# Altium footprint library transist_footp.PcbLib: 40 footprints (part 3 of 3)
Each footprint in its own frame and in the unit in brackets; x right, y up, seen from the top. Pads: shape width x height; smd on the part's side, far side on the other; paste and mask are expansions set on the pad; w line width, h text height; cw(c..) or ccw(c..) is an arc to the next point about the centre after c.
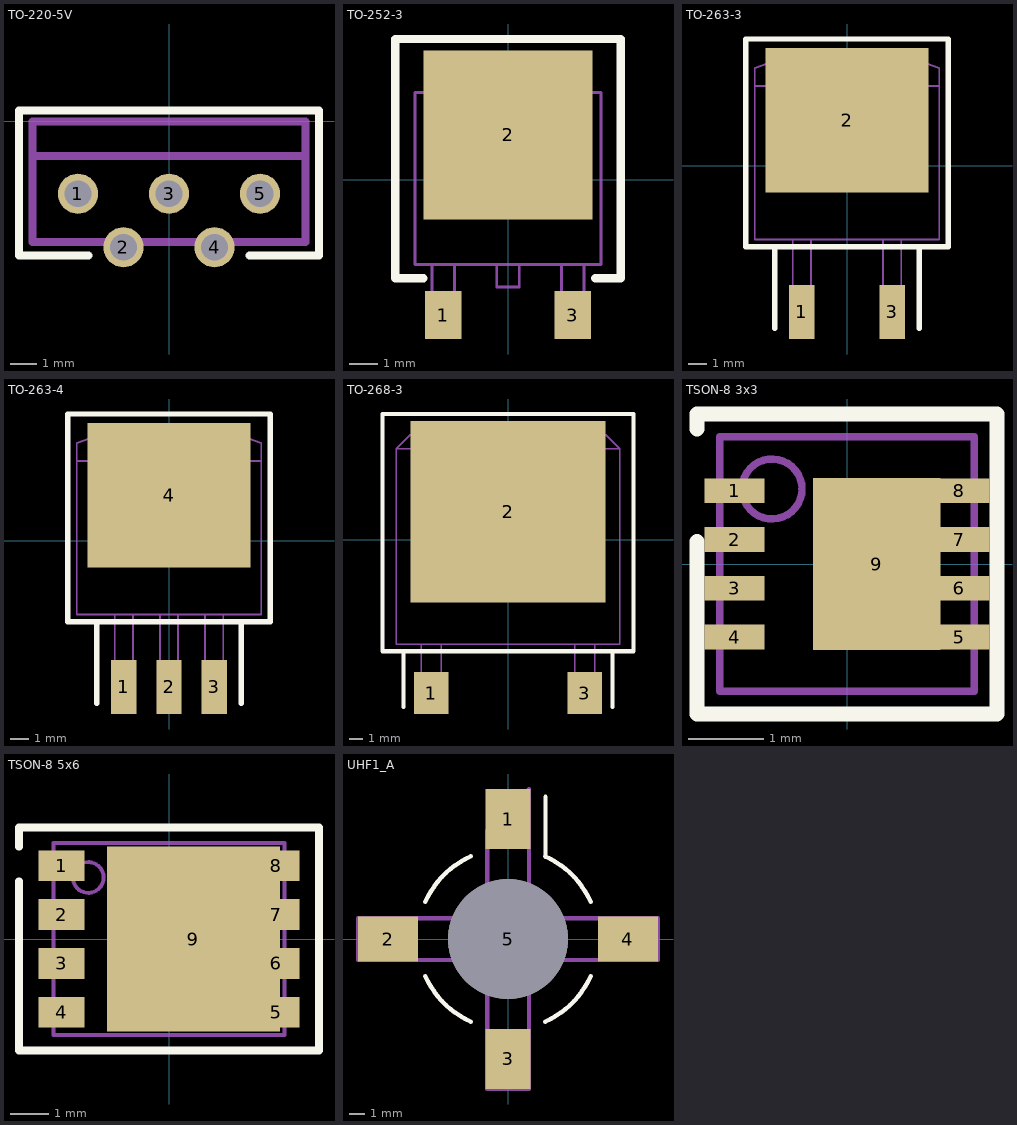
[diagram p2: the footprints below, top view; thin cyan lines are the x and y axes]

## TO-220-5V [mm]
pads (5):
  round 1.5 hole 1: 1(-3.4,-2.7) 2(-1.7,-4.7) 3(0,-2.7) 4(1.7,-4.7) 5(3.4,-2.7)
Top Overlay:
  lines w0.3: -3,-5 -5.6,-5 -5.6,0.4 5.6,0.4 5.6,-5 3,-5
Mechanical 1:
  lines w0.3: -5.1,-1.3 5.1,-1.3 ; -5.1,-4.5 5.1,-4.5 5.1,0 -5.1,0 -5.1,-4.5

## TO-252-3 [mm]
height 2.4
pads (3):
  rect 1.3x1.7 smd: 1(-2.3,-4.8) 3(2.3,-4.8)
  rect 6x6 smd paste-3: 2(0,1.6)
Top Overlay:
  lines w0.3: -3,-3.5 -4,-3.5 -4,5 4,5 4,-3.5 3.1,-3.5
Top Paste:
  rectangle: -2.5,-1 -0.4,1.2
  rectangle: 0.4,-1 2.5,1.2
  rectangle: 0.4,2 2.5,4.2
  rectangle: -2.5,2 -0.4,4.2
Mechanical 1:
  lines w0.1: -2.7,-3 -2.7,-5.4 -1.9,-5.4 -1.9,-3 ; -2.7,3.1 -2.7,4.3 -2.1,4.3 -2.1,4 2.1,4 2.1,4.3 2.7,4.3 2.7,3.1 ; -0.4,-3 -0.4,-3.8 0.4,-3.8 0.4,-3 ; 1.9,-3 1.9,-5.4 2.7,-5.4 2.7,-3 ; -3.3,-3 -3.3,3.1 3.3,3.1 3.3,-3 -3.3,-3
3D body: height 0.6, standoff 0, extent -2.7,2.9 2.7,4.3
3D body: height 2.4, standoff 0, extent -3.3,-3 3.3,3.1
3D body: height 1, standoff 0.6, extent -0.45,-3.8 0.45,-2.8
3D body: height 0.96, standoff 0.04, extent -2.7,-5.4 -1.9,-2.9
3D body: height 0.96, standoff 0.04, extent 1.9,-5.4 2.7,-2.9

## TO-263-3 [mm]
height 4.6
pads (3):
  rect 1.4x3 smd: 1(-2.5,-8.1) 3(2.5,-8.1)
  rect 9x8 smd paste-10: 2(0,2.5)
Top Overlay:
  lines w0.3: -4,-9 -4,-4.5 ; 4,-9 4,-4.5 ; -5.6,-4.5 5.6,-4.5 5.6,7 -5.6,7 -5.6,-4.5
Top Paste:
  rectangle: -4,-0.5 -0.5,2
  rectangle: 0.5,-0.5 4,2
  rectangle: 0.5,3.5 4,6
  rectangle: -4,3.5 -0.5,6
Mechanical 1:
  lines w0.1: -5.1,4.4 5.1,4.4 ; -3,-4.1 -3,-9.2 -2,-9.2 -2,-4.1 ; 2,-4.1 2,-9.2 3,-9.2 3,-4.1 ; -5.1,-4.1 -5.1,5.4 -3.4,6 3.4,6 5.1,5.4 5.1,-4.1 -5.1,-4.1
3D body: height 0.6, standoff 0, extent -5.1,4.4 5.1,6
3D body: height 4.5, standoff 0.2, extent -5.1,-4.2 5.1,4.4
3D body: height 2.01, standoff -0.01, extent 1.9,-9.2 3.1,-3.7
3D body: height 2.01, standoff -0.01, extent -3.1,-9.2 -1.9,-3.7

## TO-263-4 [mm]
height 4.6
pads (4):
  rect 1.4x3 smd: 1(-2.5,-8.1) 2(0,-8.1) 3(2.5,-8.1)
  rect 9x8 smd paste-10: 4(0,2.5)
Top Overlay:
  lines w0.3: -4,-9 -4,-4.5 ; 4,-9 4,-4.5 ; -5.6,-4.5 -5.6,7 5.6,7 5.6,-4.5 -5.6,-4.5
Top Paste:
  rectangle: -4,3.5 -0.5,6
  rectangle: 0.5,3.5 4,6
  rectangle: 0.5,-0.5 4,2
  rectangle: -4,-0.5 -0.5,2
Mechanical 1:
  lines w0.1: -5.1,4.4 5.1,4.4 ; -3,-4.1 -3,-9.2 -2,-9.2 -2,-4.1 ; -0.5,-4.1 -0.5,-9.2 0.5,-9.2 0.5,-4.1 ; 2,-4.1 2,-9.2 3,-9.2 3,-4.1 ; -5.1,-4.1 5.1,-4.1 5.1,5.4 3.4,6 -3.4,6 -5.1,5.4 -5.1,-4.1
3D body: height 4.5, standoff 0.2, extent -5.1,-4.2 5.1,4.4
3D body: height 0.6, standoff 0, extent -5.1,4.4 5.1,6
3D body: height 2.01, standoff -0.01, extent 1.9,-9.2 3.1,-3.7
3D body: height 2.01, standoff -0.01, extent -0.6,-9.2 0.6,-3.7
3D body: height 2.01, standoff -0.01, extent -3.1,-9.2 -1.9,-3.7

## TO-268-3 [mm]
height 5
pads (3):
  rect 2.5x3 smd: 1(-5.5,-11) 3(5.5,-11)
  rect 14x13 smd paste-10: 2(0,2)
Top Overlay:
  lines w0.3: -7.5,-12 -7.5,-8 ; 7.5,-12 7.5,-8 ; -9,-8 -9,9 9,9 9,-8 -9,-8
Top Paste:
  rectangle: 3,-3.5 6,1
  rectangle: 3,2.5 6.5,4.5
  rectangle: -6.5,2.5 -3,4.5
  rectangle: -1.5,1.5 1.5,7.5
  rectangle: -6,-3.5 -3,1
  rectangle: -1.5,-3.5 1.5,0
Mechanical 1:
  lines w0.1: -6.2,-7.5 -6.2,-11.5 -4.8,-11.5 -4.8,-7.5 ; 4.8,-7.5 4.8,-11.5 6.2,-11.5 6.2,-7.5 ; -8,6.5 -8,-7.5 8,-7.5 8,6.5 ; -8,6.5 8,6.5 ; -8,6.5 -7,7.5 7,7.5 8,6.5
3D body: height 5, standoff 0.2, extent -8,-7.5 8,6.5
3D body: height 0.6, standoff 0, extent -8,4.5 8,7.5
3D body: height 2.46, standoff -0.06, extent -6.2,-12 -4.8,-6.5
3D body: height 2.46, standoff -0.06, extent 4.8,-12 6.2,-6.5

## TSON-8 3x3 [mm] "3x3"
height 1
pads (9):
  rect 0.8x0.33 smd: 1(-1.5,0.975) 2(-1.5,0.325) 3(-1.5,-0.325) 4(-1.5,-0.975) 5(1.5,-0.975) 6(1.5,-0.325) 7(1.5,0.325) 8(1.5,0.975)
  rect 1.7x2.3 smd: 9(0.4,0)
Top Overlay:
  lines w0.2: -2,0.3 -2,-2 2,-2 2,2 -2,2 -2,1.8
Mechanical 1:
  circle w0.1: c-1,1 r0.4
  lines w0.1: -1.7,-1.7 1.7,-1.7 1.7,1.7 -1.7,1.7 -1.7,-1.7
3D body: height 0.3, standoff 0, extent 1.675,0.8 1.725,1.15
3D body: height 0.3, standoff 0, extent 1.675,0.15 1.725,0.5
3D body: height 0.3, standoff 0, extent 1.675,-0.5 1.725,-0.15
3D body: height 0.3, standoff 0, extent 1.675,-1.15 1.725,-0.8
3D body: height 0.3, standoff 0, extent -1.725,-1.15 -1.675,-0.8
3D body: height 0.3, standoff 0, extent -1.725,-0.5 -1.675,-0.15
3D body: height 0.3, standoff 0, extent -1.725,0.15 -1.675,0.5
3D body: height 0.3, standoff 0, extent -1.725,0.8 -1.675,1.15
3D body: height 1, standoff 0, extent -1.7,-1.7 1.7,1.7

## TSON-8 5x6 [mm] "5x6"
height 1
pads (9):
  rect 1.2x0.8 smd: 1(-2.794,1.905) 2(-2.794,0.635) 3(-2.794,-0.635) 4(-2.794,-1.905) 5(2.794,-1.905) 6(2.794,-0.635) 7(2.794,0.635) 8(2.794,1.905)
  rect 4.5x4.8 smd: 9(0.635,0)
Top Overlay:
  lines w0.2: -3.9,1.5 -3.9,-2.9 3.9,-2.9 3.9,2.9 -3.9,2.9 -3.9,2.4
Mechanical 1:
  circle w0.1: c-2.1,1.6 r0.4
  lines w0.1: -3,-2.5 -3,2.5 3,2.5 3,-2.5 -3,-2.5
3D body: height 1, standoff 0, extent -3,-2.5 3,2.5
3D body: height 0.3, standoff 0, extent -3.175,1.651 -2.921,2.159
3D body: height 0.3, standoff 0, extent -3.175,0.381 -2.921,0.889
3D body: height 0.3, standoff 0, extent -3.175,-0.889 -2.921,-0.381
3D body: height 0.3, standoff 0, extent -3.175,-2.159 -2.921,-1.651
3D body: height 0.3, standoff 0, extent 2.921,1.651 3.175,2.159
3D body: height 0.3, standoff 0, extent 2.921,0.381 3.175,0.889
3D body: height 0.3, standoff 0, extent 2.921,-0.889 3.175,-0.381
3D body: height 0.3, standoff 0, extent 2.921,-2.159 3.175,-1.651

## UHF1_A [mm]
pads (5):
  rect 3x4 smd: 1(0,8) 3(0,-8)
  rect 4x3 smd: 2(-8,0) 4(8,0)
  round 8 hole 8: 5(0,0)
Top Overlay:
  lines w0.3: -5.502,-2.496 ccw(c0,0) -2.496,-5.502 ; -5.502,2.496 cw(c0,0) -2.496,5.502 ; 2.496,-5.502 ccw(c0,0) 5.502,-2.496 ; 2.496,5.502 cw(c0,0) 5.502,2.496 ; 2.5,5.5 2.5,9.5
Mechanical 1:
  circle w0.3: c0,0 r3.5
  lines w0.3: -3.2,-1.4 -10,-1.4 -10,1.4 -3.2,1.4 ; -1.4,-3.2 -1.4,-10 1.4,-10 1.4,-3.2 ; -1.4,3.2 -1.4,7.2 1.4,10 1.4,3.2 ; 3.2,-1.4 10,-1.4 10,1.4 3.2,1.4